# Altium footprint library BGA4C35P2X2_64X64X33.PcbLib: 1 footprints
Each footprint in its own frame and in the unit in brackets; x right, y up, seen from the top. Pads: shape width x height; smd on the part's side, far side on the other; paste and mask are expansions set on the pad; w line width, h text height; cw(c..) or ccw(c..) is an arc to the next point about the centre after c.
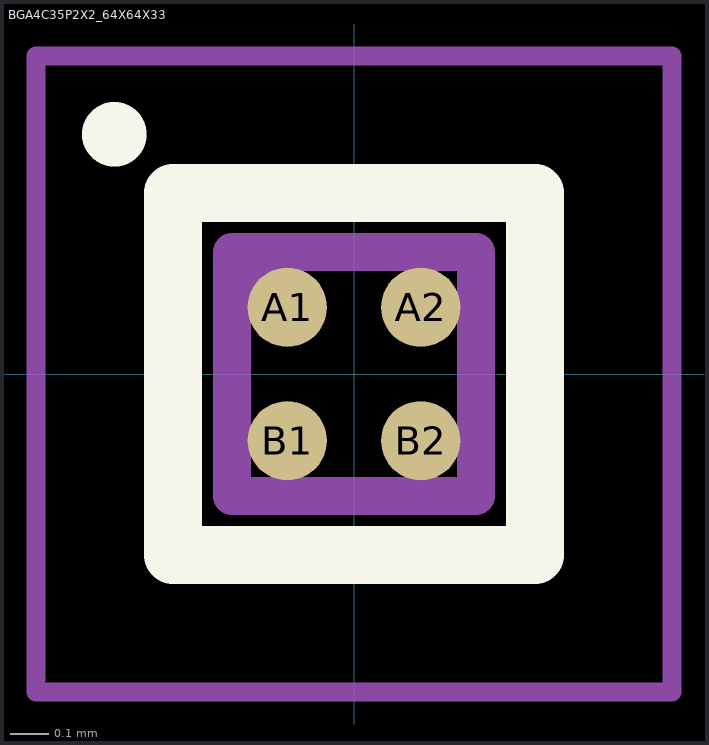
[diagram p0: the footprint, top view; thin cyan lines are the x and y axes]

## BGA4C35P2X2_64X64X33 [mm]
pads (4):
  round 0.208 smd: A1(-0.175,0.175) A2(0.175,0.175) B1(-0.175,-0.175) B2(0.175,-0.175)
Top Overlay:
  circle w0.152: c-0.629,0.629 r0.008
  lines w0.152: -0.475,-0.475 -0.475,0.475 0.475,0.475 0.475,-0.475 -0.475,-0.475
Mechanical 15:
  lines w0.1: -0.32,0.152 -0.152,0.32 ; -0.32,-0.32 -0.32,0.32 0.32,0.32 0.32,-0.32 -0.32,-0.32
Mechanical 20:
  lines w0.05: -0.835,-0.835 -0.835,0.835 0.835,0.835 0.835,-0.835 -0.835,-0.835
3D body "NCP167BFCT330T2G.stp": height 0.33, standoff 0, extent -0.32,-0.32 0.32,0.32